# Altium integrated library relay.IntLib: 34 symbols
Pins are listed as number, name and electrical type; pins without a type are passive.

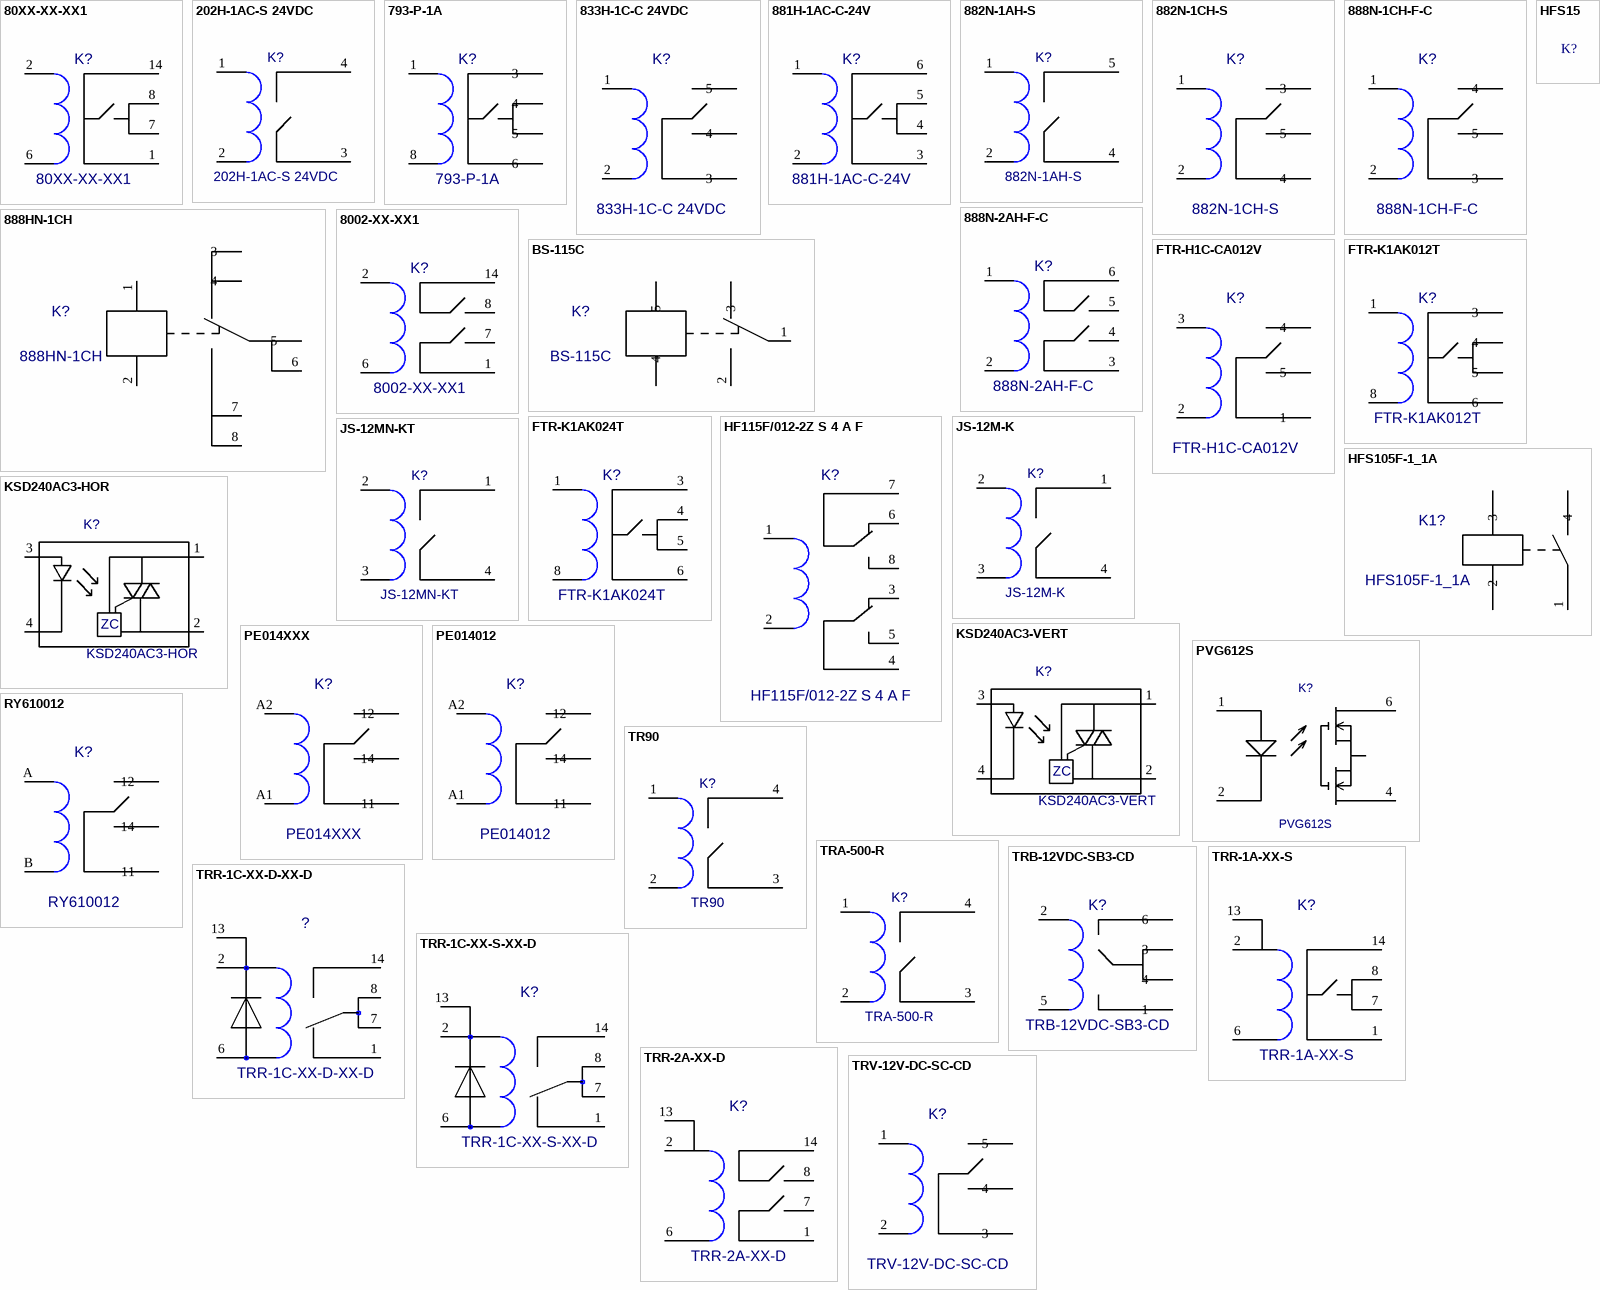
[diagram p0: symbols 80XX-XX-XX1 to TRV-12V-DC-SC-CD]

## 80XX-XX-XX1
designator K?
Value: *
footprint 80XX-XX-XX1_80XX-XX-XX1(Primary)
pins: 1, 2, 6, 7, 8, 9 hidden, 13 hidden, 14

## 202H-1AC-S 24VDC
designator K?
Value: *
footprint 202H-1AC-S 24VDC
pins: 1 A1, 2 A2, 3 A3, 4 A4

## 793-P-1A
designator K?
Value: *
footprint 793-P-1A_793-P-1A(Primary)
pins: 1, 3, 4, 5, 6, 8 2

## 833H-1C-C 24VDC
designator K?
Value: *
footprint 833H-1C-C 24VDC
pins: 1, 2, 3, 4, 5

## 881H-1AC-C-24V
designator K?
Value: *
footprint 881H-1AC
pins: 1, 2, 3, 4, 5, 6

## 882N-1AH-S
designator K?
Value: *
footprint 882N-1AH-S
pins: 1 A1, 2 A2, 4 A3, 5 A4

## 882N-1CH-S
designator K?
Value: *
footprint 882N-1AH-S
pins: 1, 2, 3, 4, 5

## 888HN-1CH
designator K?
Value: *
footprint 888HN-1CH
pins: 1, 2, 3, 4, 5, 6, 7, 8

## 888N-1CH-F-C
designator K?
Value: *
footprint 888N-1CH
pins: 1, 2, 3, 4, 5

## 888N-2AH-F-C
designator K?
Value: *
footprint 888N-2AH
pins: 1, 2, 3, 4, 5, 6

## 8002-XX-XX1
designator K?
Value: *
footprint 80XX-XX-XX1_8002-XX-XX1(Primary)
pins: 1, 2, 6, 7, 8, 9 hidden, 13 hidden, 14

## BS-115C
designator K?
Value: *
footprint BS-115C
pins: 1, 2, 3, 4, 5

## FTR-H1C-CA012V
designator K?
Value: *
footprint FTR-H1C_FTR-H1C-CA012V(Primary)
pins: 1, 2, 3, 4, 5

## FTR-K1AK012T
designator K?
Value: *
footprint K1AK024T_FTR-K1AK012T(Primary)
pins: 1, 3, 4, 5, 6, 8 2

## FTR-K1AK024T
designator K?
Value: *
footprint K1AK024T_FTR-K1AK024T(Primary)
pins: 1, 3, 4, 5, 6, 8 2

## HF115F/012-2Z S 4 A F
designator K?
Value: *
footprint HF115F/XXX-XX X X X X
pins: 1, 2, 3, 4, 5, 6, 7, 8

## HFS15
designator K?  (value not drawn)
Value: *
footprint HFS15

## HFS105F-1_1A
designator K1?
Value: *
footprint TR90_1A
pins: 1, 2, 3, 4

## JS-12M-K
designator K?
Value: *
footprint JS-XXXX-XX
pins: 1 A4, 2 A1, 3 A2, 4 A3

## JS-12MN-KT
designator K?
Value: *
footprint JS-MN-KT
pins: 1 A4, 2 A1, 3 A2, 4 A3

## KSD240AC3-HOR
designator K?
Value: *
footprint SIP-4-HOR
pins: 1, 2, 3, 4
text: ZC

## KSD240AC3-VERT
designator K?
Value: *
footprint SIP-4-VERT
pins: 1, 2, 3, 4
text: ZC

## PE014XXX
designator K?
Value: *
footprint PE014XXX_PE014XXX(Primary)
pins: 11, 12, 14, A1, A2

## PE014012
designator K?
Value: *
footprint PE014XXX_PE014012(Primary)
pins: 11, 12, 14, A1, A2

## PVG612S
designator K?
Value: *
footprint PVG612S
pins: 1 A1, 2 A3, 3 hidden, 4 A4, 5 hidden, 6 A2

## RY610012
designator K?
Value: *
footprint RY610012_RY610012(Primary)
pins: 11, 12, 14, A, B

## TR90
designator K?
Value: *
footprint TR90
pins: 1, 2, 3, 4

## TRA-500-R
designator K?
Value: *
footprint TRA-500-R
pins: 1 A4, 2 A1, 3 A2, 4 A3

## TRB-12VDC-SB3-CD
designator K?
Value: *
footprint TRB
pins: 1, 2, 3, 4, 5, 6

## TRR-1A-XX-S
designator K?
Value: *
footprint SMD-14_TRR-1A-XX-S(Primary)
pins: 1 4, 2, 6 3, 7 5, 8 6, 9 hidden, 13 1, 14 7

## TRR-1C-XX-D-XX-D
designator ?
Value: *
footprint TRR-XX-XX-D_TRR-1C-XX-D-XX-D(Primary)
pins: 1, 2, 6, 7, 8, 9 hidden, 13, 14

## TRR-1C-XX-S-XX-D
designator K?
Value: *
footprint TRR-XX-XX-S_TRR-1C-XX-S-XX-D(Primary)
pins: 1, 2, 6, 7, 8, 9 hidden, 13, 14

## TRR-2A-XX-D
designator K?
Value: *
footprint 80XX-XX-XX1_TRR-2A-XX-D(Primary)
pins: 1 4, 2, 6 3, 7 5, 8 6, 9 hidden, 13 1, 14 7

## TRV-12V-DC-SC-CD
designator K?
Value: *
footprint TRV-12V-DC-SC-CD
pins: 1, 2, 3, 4, 5